# EAGLE library part TD62064APG (library ExtremeFeedbackDevice)
Dual In Line / Socket
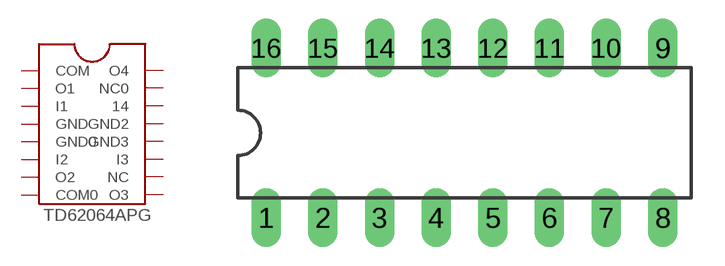
[diagram p2: symbol with the pads of TD62064APG; footprint TD62064APG]

Designator prefix IC

## TD62064APG  [TD62064APG]
1  COM  pas
2  O1  pas
3  I1  pas
4  GND  pas
5  GND0  pas
6  I2  pas
7  O2  pas
8  COM0  pas
9  O3  pas
10  NC  pas
11  I3  pas
12  GND3  pas
13  GND2  pas
14  14  pas
15  NC0  pas
16  O4  pas

## Footprint TD62064APG (pad centres in mm)
Dual In Line Package
drill 0.813 long: 1 -8.89,-3.81; 2 -6.35,-3.81; 3 -3.81,-3.81; 4 -1.27,-3.81; 5 1.27,-3.81; 6 3.81,-3.81; 7 6.35,-3.81; 8 8.89,-3.81; 9 8.89,3.81; 10 6.35,3.81; 11 3.81,3.81; 12 1.27,3.81; 13 -1.27,3.81; 14 -3.81,3.81; 15 -6.35,3.81; 16 -8.89,3.81